# EAGLE library part PMW3901MB (library pimoroni-optoelectronics)
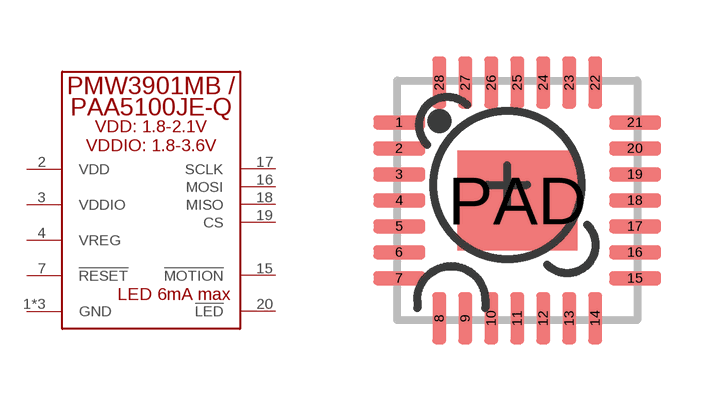
[diagram p8: symbol with the pads of PMW3901MB; footprint PMW3901MB]

Designator prefix U

## PMW3901MB  [PMW3901MB]
1  GND
2  VDD
3  VDDIO
4  VREG
7  !RESET
15  !MOTION
16  MOSI
17  SCLK
18  MISO
19  CS
20  !LED
21  GND
PAD  GND

## Footprint PMW3901MB (pad centres in mm)
smd 1.3 x 0.35: 1 -2.95,1.95; 2 -2.95,1.3; 3 -2.95,0.65; 4 -2.95,0; 5 -2.95,-0.65; 6 -2.95,-1.3; 7 -2.95,-1.95; 15 2.95,-1.95; 16 2.95,-1.3; 17 2.95,-0.65; 18 2.95,0; 19 2.95,0.65; 20 2.95,1.3; 21 2.95,1.95
smd 0.35 x 1.3: 8 -1.95,-2.95; 9 -1.3,-2.95; 10 -0.65,-2.95; 11 0,-2.95; 12 0.65,-2.95; 13 1.3,-2.95; 14 1.95,-2.95; 22 1.95,2.95; 23 1.3,2.95; 24 0.65,2.95; 25 0,2.95; 26 -0.65,2.95; 27 -1.3,2.95; 28 -1.95,2.95
smd 3 x 2.5: PAD 0,0